# EAGLE library part MAX1554 (library xmaker)
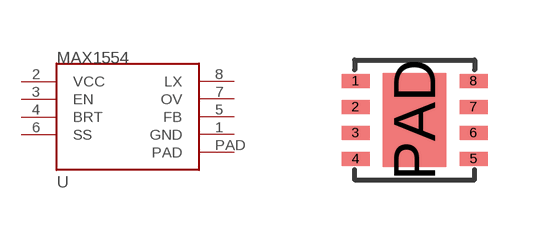
[diagram p18: symbol with the pads of DFN8-3X3-0.65; footprint DFN8-3X3-0.65]

Designator prefix U

## MAX1554  [DFN8-3X3-0.65]
1  GND
2  VCC
3  EN
4  BRT
5  FB
6  SS
7  OV
8  LX
PAD  PAD

## Footprint DFN8-3X3-0.65 (pad centres in mm)
smd 0.7 x 0.35: 1 -1.475,0.975; 2 -1.475,0.325; 3 -1.475,-0.325; 4 -1.475,-0.975; 5 1.475,-0.975; 6 1.475,-0.325; 7 1.475,0.325; 8 1.475,0.975
smd 1.58 x 2.35: PAD 0,0